# EAGLE library part UPD424260 (library memories)
DRAM 256K x16 NEC Electronics Inc.
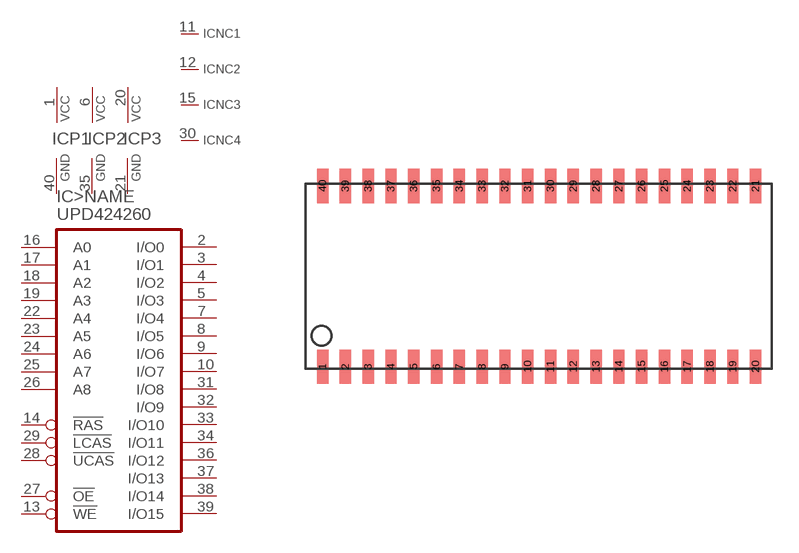
[diagram p2: symbol with the pads of SOJ40-4; footprint SOJ40-4]

Designator prefix IC; gates >NAME=DRAM256KX16 P1=PWRN P2=PWRN P3=PWRN NC1=NC NC2=NC NC3=NC NC4=NC

## UPD424260LE  [SOJ40-4]
1  P1:VCC  pwr
2  >NAME:I/O0  hiz
3  >NAME:I/O1  hiz
4  >NAME:I/O2  hiz
5  >NAME:I/O3  hiz
6  P2:VCC  pwr
7  >NAME:I/O4  hiz
8  >NAME:I/O5  hiz
9  >NAME:I/O6  hiz
10  >NAME:I/O7  hiz
11  NC1:NC  nc
12  NC2:NC  nc
13  >NAME:!WE  in
14  >NAME:!RAS  in
15  NC3:NC  nc
16  >NAME:A0  in
17  >NAME:A1  in
18  >NAME:A2  in
19  >NAME:A3  in
20  P3:VCC  pwr
21  P3:GND  pwr
22  >NAME:A4  in
23  >NAME:A5  in
24  >NAME:A6  in
25  >NAME:A7  in
26  >NAME:A8  in
27  >NAME:!OE  in
28  >NAME:!UCAS  in
29  >NAME:!LCAS  in
30  NC4:NC  nc
31  >NAME:I/O8  hiz
32  >NAME:I/O9  hiz
33  >NAME:I/O10  hiz
34  >NAME:I/O11  hiz
35  P2:GND  pwr
36  >NAME:I/O12  hiz
37  >NAME:I/O13  hiz
38  >NAME:I/O14  hiz
39  >NAME:I/O15  hiz
40  P1:GND  pwr

## Footprint SOJ40-4 (pad centres in mm)
Small Outline J-Bend
smd 0.635 x 1.905: 1 -10.16,-5.029; 2 -8.89,-5.029; 3 -7.62,-5.029; 4 -6.35,-5.029; 5 -5.08,-5.029; 6 -3.81,-5.029; 7 -2.54,-5.029; 8 -1.27,-5.029; 9 0,-5.029; 10 1.27,-5.029; 11 2.54,-5.029; 12 3.81,-5.029; 13 5.08,-5.029; 14 6.35,-5.029; 15 7.62,-5.029; 16 8.89,-5.029; 17 10.16,-5.029; 18 11.43,-5.029; 19 12.7,-5.029; 20 13.97,-5.029; 21 13.97,5.029; 22 12.7,5.029; 23 11.43,5.029; 24 10.16,5.029; 25 8.89,5.029; 26 7.62,5.029; 27 6.35,5.029; 28 5.08,5.029; 29 3.81,5.029; 30 2.54,5.029; 31 1.27,5.029; 32 0,5.029; 33 -1.27,5.029; 34 -2.54,5.029; 35 -3.81,5.029; 36 -5.08,5.029; 37 -6.35,5.029; 38 -7.62,5.029; 39 -8.89,5.029; 40 -10.16,5.029